# Altium schematic symbol library Components - 24.09.26 - 10.48.SchLib: 1 symbol
Pins are listed as number, name and electrical type; pins without a type are passive.

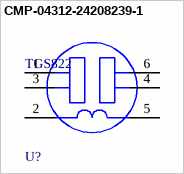
[diagram p0: symbol CMP-04312-24208239-1]

## CMP-04312-24208239-1
designator U?, comment TGS822
TGS822 MOS-Type organic solvent vapors sensor; range: 50-5000ppm C2H5OH; supply: 5V; power: 660mW; NexarPartId: 24208239; Max Supply Voltage: 24V; Height: 10mm; RoHS: Compliant; Case/Package: Radial
footprint FP-TGS822-MFG
pins: 1 VC (power), 2 VH (power), 3 VC (power), 4 VRL, 5 GND (power), 6 VRL